# Altium footprint library RVAR-SPE-PVG5A.PcbLib: 1 footprints
Each footprint in its own frame and in the unit in brackets; x right, y up, seen from the top. Pads: shape width x height; smd on the part's side, far side on the other; paste and mask are expansions set on the pad; w line width, h text height; cw(c..) or ccw(c..) is an arc to the next point about the centre after c.
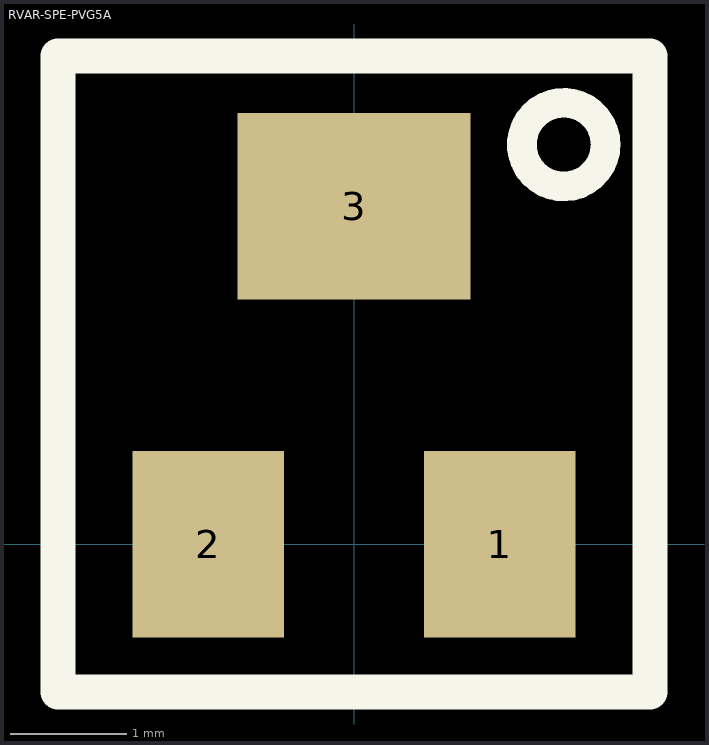
[diagram p0: the footprint, top view; thin cyan lines are the x and y axes]

## RVAR-SPE-PVG5A [mm] "vertical SMD potentiometer"
pads (3):
  rect 1.3x1.6 smd: 1(1.25,0) 2(-1.25,0)
  rect 2x1.6 smd: 3(0,2.9)
Top Overlay:
  circle w0.254: c1.8,3.429 r0.359
  lines w0.3: -2.54,-1.27 2.54,-1.27 2.54,4.191 -2.54,4.191 -2.54,-1.27
3D body: height 5.1, standoff 0, extent -1.778,-0.635 1.778,3.556